# Altium footprint library PcbLib1.PcbLib: 21 footprints (part 2 of 2)
Each footprint in its own frame and in the unit in brackets; x right, y up, seen from the top. Pads: shape width x height; smd on the part's side, far side on the other; paste and mask are expansions set on the pad; w line width, h text height; cw(c..) or ccw(c..) is an arc to the next point about the centre after c.
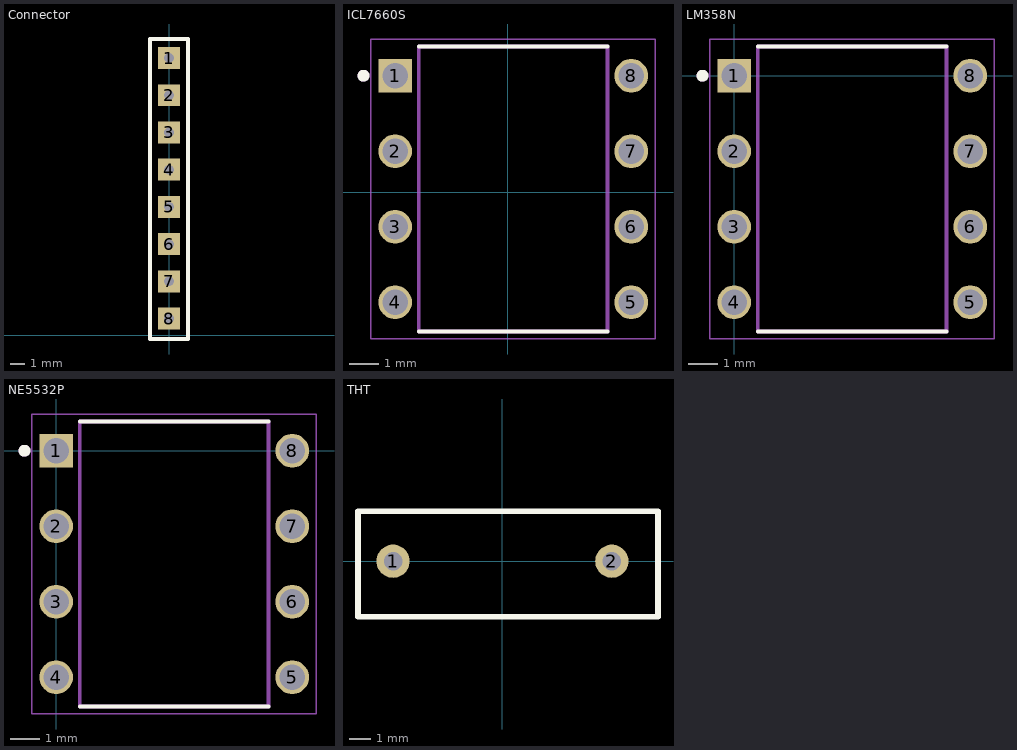
[diagram p1: the footprints below, top view; thin cyan lines are the x and y axes]

## Connector [mm]
pads (8):
  rect 1.5x1.5 hole 0.66 square: 1(0,18.923) 2(0,16.383) 3(0,13.843) 4(0,11.303) 5(0,8.763) 6(0,6.223) 7(0,3.683) 8(0,1.143)
Top Overlay:
  lines w0.254: -1.3,-0.254 1.3,-0.254 1.3,20.223 -1.3,20.223 -1.3,-0.254
3D body "8-Pin Header - Male - 2.54mm.step": height 8.89, standoff -3.05, extent -1.27,-0.127 1.27,20.193

## ICL7660S [mm]
pads (8):
  rect 1.13x1.13 / inner round 1.13 / far side rect 1.13x1.13 hole 0.85: 1(-3.789,3.912)
  round 1.13 hole 0.85: 2(-3.789,1.372) 3(-3.789,-1.168) 4(-3.789,-3.708) 5(4.151,-3.708) 6(4.151,-1.168) 7(4.151,1.372) 8(4.151,3.912)
Top Overlay:
  circle w0.2: c-4.854,3.912 r0.1
  lines w0.127: -2.994,-4.693 3.356,-4.693 ; -2.994,4.897 3.356,4.897
Mechanical 13:
  circle w0.2: c-4.854,3.912 r0.1
  lines w0.127: -2.994,-4.693 3.356,-4.693 3.356,4.897 -2.994,4.897 -2.994,-4.693
Mechanical 15:
  lines w0.05: -4.604,-4.943 4.966,-4.943 4.966,5.147 -4.604,5.147 -4.604,-4.943
3D body "step_temp.STEP": height 5.08, standoff -3, extent -3.972,-4.693 4.334,4.897

## LM358N [mm]
pads (8):
  rect 1.13x1.13 / inner round 1.13 / far side rect 1.13x1.13 hole 0.85: 1(0,0)
  round 1.13 hole 0.85: 2(0,-2.54) 3(0,-5.08) 4(0,-7.62) 5(7.94,-7.62) 6(7.94,-5.08) 7(7.94,-2.54) 8(7.94,0)
Top Overlay:
  circle w0.2: c-1.065,0 r0.1
  lines w0.127: 0.795,-8.605 7.145,-8.605 ; 0.795,0.985 7.145,0.985
Mechanical 13:
  circle w0.2: c-1.065,0 r0.1
  lines w0.127: 0.795,-8.605 0.795,0.985 7.145,0.985 7.145,-8.605 0.795,-8.605
Mechanical 15:
  lines w0.05: -0.815,-8.855 8.755,-8.855 8.755,1.235 -0.815,1.235 -0.815,-8.855
3D body "step_temp.STEP": height 5.08, standoff -3, extent -0.183,-8.605 8.123,0.985

## NE5532P [mm]
pads (8):
  rect 1.13x1.13 / inner round 1.13 / far side rect 1.13x1.13 hole 0.85: 1(0,0)
  round 1.13 hole 0.85: 2(0,-2.54) 3(0,-5.08) 4(0,-7.62) 5(7.94,-7.62) 6(7.94,-5.08) 7(7.94,-2.54) 8(7.94,0)
Top Overlay:
  circle w0.2: c-1.065,0 r0.1
  lines w0.127: 0.795,-8.605 7.145,-8.605 ; 0.795,0.985 7.145,0.985
Mechanical 13:
  circle w0.2: c-1.065,0 r0.1
  lines w0.127: 0.795,-8.605 7.145,-8.605 7.145,0.985 0.795,0.985 0.795,-8.605
Mechanical 15:
  lines w0.05: -0.815,-8.855 8.755,-8.855 8.755,1.235 -0.815,1.235 -0.815,-8.855
3D body "step_temp.STEP": height 5.08, standoff -3, extent -0.183,-8.605 8.123,0.985

## THT [mm]
pads (2):
  round 1.524 hole 0.85: 1(-5,0) 2(5,0)
Top Overlay:
  lines w0.254: -6.604,-2.54 -6.604,2.286 7.112,2.286 7.112,-2.286 7.112,-2.54 -6.604,-2.54